# EAGLE library part DSPIC33FJ12MC202-I/SO (library Microchip_By_element14_Batch_1)
16-bit Digital Signal Controllers
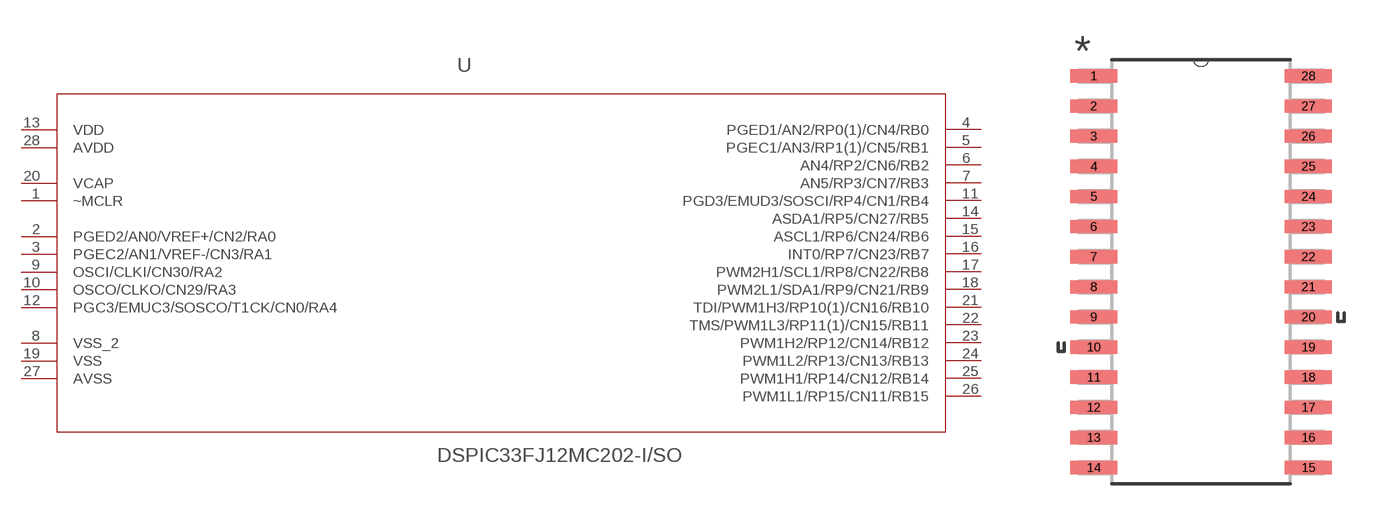
[diagram p374: symbol with the pads of SOIC127P1030X265-28N; footprint SOIC127P1030X265-28N]

Designator prefix -

## DSPIC33FJ12MC202-I/SO (MPN: DSPIC33FJ12MC202-I/SO; OC_FARNELL: 1439609; OC_NEWARK: 88K3898; PACKAGE: SOIC-28; SUPPLIER: Microchip)  [SOIC127P1030X265-28N]
1  ~MCLR  in
2  PGED2/AN0/VREF+/CN2/RA0
3  PGEC2/AN1/VREF-/CN3/RA1
4  PGED1/AN2/RP0(1)/CN4/RB0
5  PGEC1/AN3/RP1(1)/CN5/RB1
6  AN4/RP2/CN6/RB2
7  AN5/RP3/CN7/RB3
8  VSS_2  pwr
9  OSCI/CLKI/CN30/RA2
10  OSCO/CLKO/CN29/RA3
11  PGD3/EMUD3/SOSCI/RP4/CN1/RB4
12  PGC3/EMUC3/SOSCO/T1CK/CN0/RA4
13  VDD  pwr
14  ASDA1/RP5/CN27/RB5
15  ASCL1/RP6/CN24/RB6
16  INT0/RP7/CN23/RB7
17  PWM2H1/SCL1/RP8/CN22/RB8
18  PWM2L1/SDA1/RP9/CN21/RB9
19  VSS  pwr
20  VCAP  pwr
21  TDI/PWM1H3/RP10(1)/CN16/RB10
22  TMS/PWM1L3/RP11(1)/CN15/RB11
23  PWM1H2/RP12/CN14/RB12
24  PWM1L2/RP13/CN13/RB13
25  PWM1H1/RP14/CN12/RB14
26  PWM1L1/RP15/CN11/RB15
27  AVSS  pwr
28  AVDD  pwr

## Footprint SOIC127P1030X265-28N (pad centres in mm)
smd 1.981 x 0.559: 1 -4.521,8.255; 2 -4.521,6.985; 3 -4.521,5.715; 4 -4.521,4.445; 5 -4.521,3.175; 6 -4.521,1.905; 7 -4.521,0.635; 8 -4.521,-0.635; 9 -4.521,-1.905; 10 -4.521,-3.175; 11 -4.521,-4.445; 12 -4.521,-5.715; 13 -4.521,-6.985; 14 -4.521,-8.255; 15 4.521,-8.255; 16 4.521,-6.985; 17 4.521,-5.715; 18 4.521,-4.445; 19 4.521,-3.175; 20 4.521,-1.905; 21 4.521,-0.635; 22 4.521,0.635; 23 4.521,1.905; 24 4.521,3.175; 25 4.521,4.445; 26 4.521,5.715; 27 4.521,6.985; 28 4.521,8.255